# Altium footprint library openmv-ae3.PcbLib: 66 footprints (part 2 of 5)
Each footprint in its own frame and in the unit in brackets; x right, y up, seen from the top. Pads: shape width x height; smd on the part's side, far side on the other; paste and mask are expansions set on the pad; w line width, h text height; cw(c..) or ccw(c..) is an arc to the next point about the centre after c.
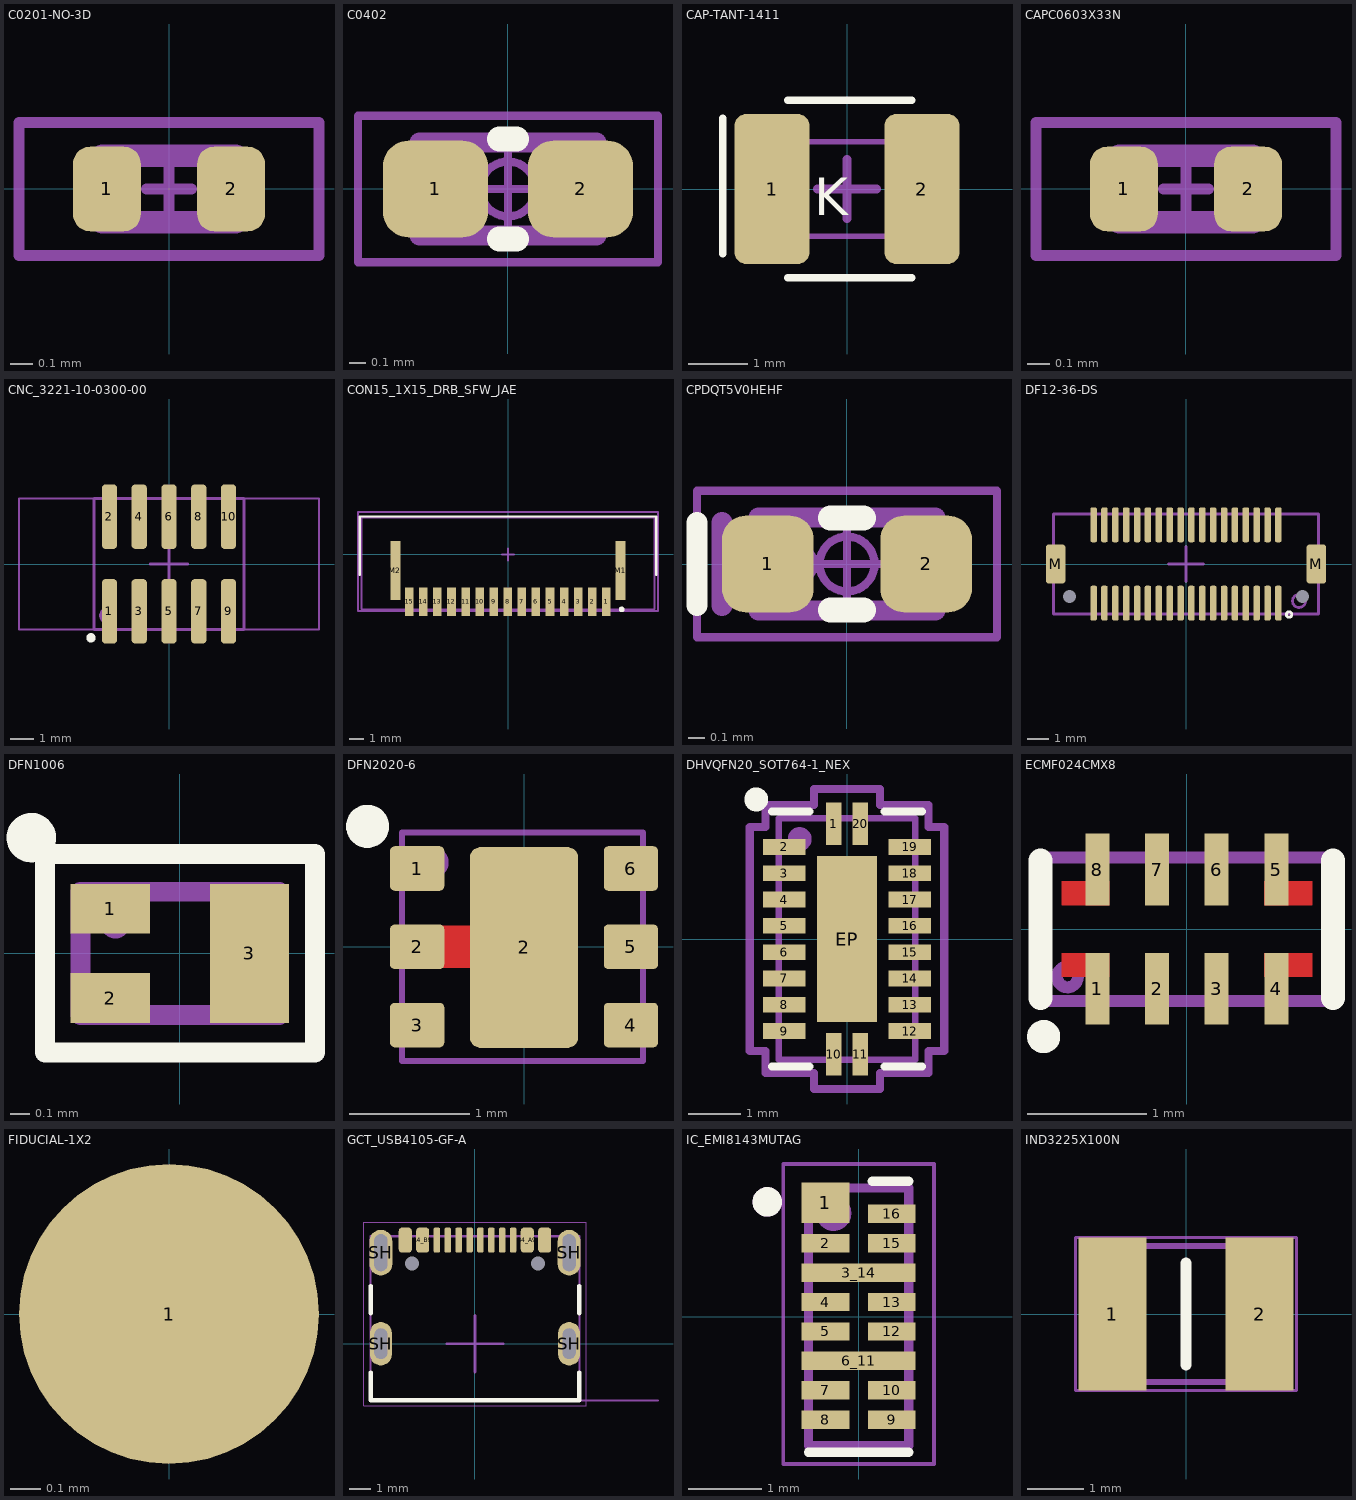
[diagram p1: the footprints below, top view; thin cyan lines are the x and y axes]

## C0201-NO-3D [mil] "0201 IPC-7351"
height 10.24
pads (2):
  rrect50% 12x15 smd mask+1.97: 1(-11,0) 2(11,0)
Top 3D Body:
  lines w3.94: -11.81,-5.91 11.81,-5.91 11.81,5.91 -11.81,5.91 -11.81,-5.91
  text ".designator" at -7.87,-2.95 h15.75
Top Courtyard:
  lines w1.97: -3.94,0 0,0 ; 0,-3.94 0,0 ; 0,3.94 0,0 ; 3.94,0 0,0 ; -26.57,-11.81 26.57,-11.81 26.57,11.81 -26.57,11.81 -26.57,-11.81

## C0402 [mm] "Chip Capacitor, 2-Leads, Body  0402 (in) 1005 (mm), IPC Medium Density"
height 0.5
pads (2):
  rrect52% 0.63x0.58 smd mask+0.05: 1(-0.435,0) 2(0.435,0)
Top Overlay:
  lines w0.15: -0.05,-0.3 0.05,-0.3 ; -0.05,0.3 0.05,0.3
Top 3D Body:
  lines w0.12: -0.53,-0.28 0.53,-0.28 0.53,0.28 -0.53,0.28 -0.53,-0.28
  text ".designator" at -0.432,-0.178 h0.3
Top Courtyard:
  circle w0.05: c0,0 r0.165
  lines w0.05: -0.22,0 0.22,0 ; 0,-0.22 0,0.22 ; -0.9,-0.44 0.9,-0.44 0.9,0.44 -0.9,0.44 -0.9,-0.44
3D body "CAP-0402.stp": height 0.5, standoff 0, extent -0.5,-0.25 0.5,0.25

## CAP-TANT-1411 [mm] "IPC 7351 1206"
height 0.6
pads (2):
  rrect30% 1.27x2.54 smd: 1(-1.27,0) 2(1.27,0)
Top Overlay:
  lines w0.127: -2.1,-1.1 -2.1,1.2 ; -1,-1.5 1.1,-1.5 ; -1,1.5 1.1,1.5
  text "K" at -0.555,-0.444 h0.64
Top 3D Body:
  lines w0.1: -1.6,-0.8 1.575,-0.8 1.575,0.8 -1.6,0.8 -1.6,-0.8
  lines w0.15: -0.5,0 0,0 ; 0,-0.5 0,0 ; 0,0.5 0,0 ; 0.5,0 0,0 ; 0,0 0,0
  lines w0.152: -1.8,-0.6 -1.8,0.6
  text ".designator" at -1.451,-0.624 h0.38
3D body "F93-C_AVX.step": height 2.16, standoff 0, extent -1.702,-1.499 1.702,1.499

## CAPC0603X33N [mil] "CAPC0603X33N"
pads (2):
  rrect50% 12x15 smd mask+1.97: 1(-10.97,-0.04) 2(11.03,-0.04)
Top Solder:
  rectangle: -6.97,-9.04 8.03,8.96
Top 3D Body:
  lines w3.94: -11.78,-5.95 -11.78,5.86 11.84,5.86 11.84,-5.95 -11.78,-5.95
  text ".designator" at -7.85,-2.99 h15.75
Top Courtyard:
  lines w1.97: -3.91,-0.04 0.03,-0.04 ; 0.03,-3.98 0.03,-0.04 ; 0.03,3.9 0.03,-0.04 ; 3.97,-0.04 0.03,-0.04 ; -26.55,-11.85 -26.55,11.77 26.6,11.77 26.6,-11.85 -26.55,-11.85
3D body "C0201_035.step": height 13.78, standoff 0, extent -11.79,-5.93 11.84,5.88

## CNC_3221-10-0300-00 [mm] "CNC_3221-10-0300-00"
pads (10):
  rrect50% 0.65x2.76 smd: 1(-2.54,-2.02) 2(-2.54,2.02) 3(-1.27,-2.02) 4(-1.27,2.02) 5(0,-2.02) 6(0,2.02) 7(1.27,-2.02) 8(1.27,2.02) 9(2.54,-2.02) 10(2.54,2.02)
Top Overlay:
  circle w0.2: c-3.327,-3.15 r0.1
Top 3D Body:
  circle w0.127: c-2.6,-2.2 r0.316
  lines w0.127: -0.8,0 0,0 ; 0,-0.8 0,0 ; 0,0.8 0,0 ; 0.8,0 0,0 ; -3.2,-2.8 3.2,-2.8 3.2,2.8 -3.2,2.8 -3.2,-2.8
  text ".designator" at -2.1,-2.65 h0.64
Top Courtyard:
  lines w0.076: -6.4,-2.8 -6.4,2.8 6.4,2.8 6.4,-2.8 -6.4,-2.8
3D body "FTSH-105-01-L-DV-K.stp": height 6.13, standoff 0.01, extent -3.175,-2.921 3.175,2.921

## CON15_1X15_DRB_SFW_JAE [mil]
pads (17):
  rect 24x79 smd mask+4: 1(275,-132.56) 2(235.63,-132.56) 3(196.26,-132.56) 4(156.89,-132.56) 5(117.52,-132.56) 6(78.15,-132.56) 7(38.78,-132.56) 8(-0.59,-132.56) 9(-39.96,-132.56) 10(-79.33,-132.56) 11(-118.7,-132.56) 12(-158.07,-132.56) 13(-197.44,-132.56) 14(-236.81,-132.56) 15(-276.18,-132.56)
  rect 28x165 smd mask+4: M1(315.04,-45.28) M2(-314.96,-45.28)
Top Overlay:
  circle w10: c317.91,-153.54 r2.95
  lines w6: -414.5,-57.67 -414.5,106.3 414.5,106.3 414.5,-57.67
Top 3D Body:
  lines w5: -16.73,0 16.73,0 ; 0,-16.73 0,16.73 ; -409.5,-153.54 409.5,-153.54 409.5,102.36 -409.5,102.36 -409.5,-153.54
  text ".designator" at -354.33,-100.4 h25
Top Courtyard:
  lines w6: -419.5,-158 419.5,-158 419.5,118.5 -419.5,118.5 -419.5,-158
3D body "ssfw15r_2_4st_lf.stp": height 106.3, standoff -0.02, extent -409.46,-154.39 409.44,101.52

## CPDQT5V0HEHF [mm] "CPDQT5V0HEHF"
pads (2):
  rrect51% 0.55x0.58 smd mask+0.05: 1(-0.475,0) 2(0.475,0)
Top Overlay:
  lines w0.127: -0.9,-0.25 -0.9,0.25
  lines w0.15: -0.1,-0.275 0.1,-0.275 ; -0.1,0.275 0.1,0.275
Top 3D Body:
  circle w0.254: c-0.3,0 r0
  lines w0.12: -0.53,-0.28 -0.53,0.28 0.53,0.28 0.53,-0.28 -0.53,-0.28
  lines w0.127: -0.75,-0.25 -0.75,0.25
  text ".designator" at -0.2,-0.2 h0.3
Top Courtyard:
  circle w0.05: c0,0 r0.165
  lines w0.05: -0.22,0 0.22,0 ; 0,-0.22 0,0.22 ; -0.9,-0.44 -0.9,0.44 0.9,0.44 0.9,-0.44 -0.9,-0.44
3D body "RES-0402.stp": height 0.34, standoff 0, extent -0.5,-0.25 0.5,0.25

## DF12-36-DS [mm] "DF12-36-DS"
pads (40):
  rrect50% 0.3x1.6 smd paste+0 mask+0.05: 1(4.25,-1.8) 2(4.25,1.8) 3(3.75,-1.8) 4(3.75,1.8) 5(3.25,-1.8) 6(3.25,1.8) 7(2.75,-1.8) 8(2.75,1.8) 9(2.25,-1.8) 10(2.25,1.8) 11(1.75,-1.8) 12(1.75,1.8) 13(1.25,-1.8) 14(1.25,1.8) 15(0.75,-1.8) 16(0.75,1.8) 17(0.25,-1.8) 18(0.25,1.8) 19(-0.25,-1.8) 20(-0.25,1.8) 21(-0.75,-1.8) 22(-0.75,1.8) 23(-1.25,-1.8) 24(-1.25,1.8) 25(-1.75,-1.8) 26(-1.75,1.8) 27(-2.25,-1.8) 28(-2.25,1.8) 29(-2.75,-1.8) 30(-2.75,1.8) 31(-3.25,-1.8) 32(-3.25,1.8) 33(-3.75,-1.8) 34(-3.75,1.8) 35(-4.25,-1.8) 36(-4.25,1.8)
  rrect30% 0.9x1.8 smd: M(-6,0) M(6,0)
  round 0 hole 0.6 unplated: MH1(5.35,-1.5) MH2(-5.35,-1.5)
Top Overlay:
  circle w0.127: c4.742,-2.324 r0.127
Top Paste:
  region: -3.638,-1.206 -3.638,-2.507 -3.858,-2.507 -3.858,-1.206
  region: -4.138,2.513 -4.138,1.213 -4.358,1.213 -4.358,2.513
  region: -3.638,2.513 -3.638,1.213 -3.858,1.213 -3.858,2.513
  region: -4.138,-1.206 -4.138,-2.507 -4.358,-2.507 -4.358,-1.206
  region: -2.638,-1.206 -2.638,-2.507 -2.858,-2.507 -2.858,-1.206
  region: -2.138,-1.206 -2.138,-2.507 -2.358,-2.507 -2.358,-1.206
  region: -1.638,-1.206 -1.638,-2.507 -1.858,-2.507 -1.858,-1.206
  region: -1.138,-1.206 -1.138,-2.507 -1.358,-2.507 -1.358,-1.206
  region: -0.638,-1.206 -0.638,-2.507 -0.858,-2.507 -0.858,-1.206
  region: -0.138,-1.206 -0.138,-2.507 -0.358,-2.507 -0.358,-1.206
  region: 0.362,-1.206 0.362,-2.507 0.142,-2.507 0.142,-1.206
  region: 0.862,-1.206 0.862,-2.507 0.642,-2.507 0.642,-1.206
  region: 1.362,-1.206 1.362,-2.507 1.142,-2.507 1.142,-1.206
  region: 1.862,-1.206 1.862,-2.507 1.642,-2.507 1.642,-1.206
  region: 2.362,-1.206 2.362,-2.507 2.142,-2.507 2.142,-1.206
  region: 2.862,-1.206 2.862,-2.507 2.642,-2.507 2.642,-1.206
  region: 3.362,-1.206 3.362,-2.507 3.142,-2.507 3.142,-1.206
  region: 3.862,-1.206 3.862,-2.507 3.642,-2.507 3.642,-1.206
  region: 4.362,-1.206 4.362,-2.507 4.142,-2.507 4.142,-1.206
  region: -3.138,2.513 -3.138,1.213 -3.358,1.213 -3.358,2.513
  region: -2.638,2.513 -2.638,1.213 -2.858,1.213 -2.858,2.513
  region: -2.138,2.513 -2.138,1.213 -2.358,1.213 -2.358,2.513
  region: -1.638,2.513 -1.638,1.213 -1.858,1.213 -1.858,2.513
  region: -1.138,2.513 -1.138,1.213 -1.358,1.213 -1.358,2.513
  region: -0.638,2.513 -0.638,1.213 -0.858,1.213 -0.858,2.513
  region: -0.148,2.513 -0.148,1.213 -0.368,1.213 -0.368,2.513
  region: 0.362,2.513 0.362,1.213 0.142,1.213 0.142,2.513
  region: 0.862,2.513 0.862,1.213 0.642,1.213 0.642,2.513
  region: 1.362,2.513 1.362,1.213 1.142,1.213 1.142,2.513
  region: 1.852,2.513 1.852,1.213 1.632,1.213 1.632,2.513
  region: 2.362,2.513 2.362,1.213 2.142,1.213 2.142,2.513
  region: 2.862,2.513 2.862,1.213 2.642,1.213 2.642,2.513
  region: 3.362,2.513 3.362,1.213 3.142,1.213 3.142,2.513
  region: 3.862,2.513 3.862,1.213 3.642,1.213 3.642,2.513
  region: 4.362,2.513 4.362,1.213 4.142,1.213 4.142,2.513
  region: -3.138,-1.206 -3.138,-2.507 -3.358,-2.507 -3.358,-1.206
Top 3D Body:
  circle w0.127: c5.2,-1.7 r0.3
  lines w0.127: -0.8,0 0,0 ; 0,-0.8 0,0 ; 0,0.8 0,0 ; 0.8,0 0,0 ; -6.1,-2.3 6.1,-2.3 6.1,2.3 -6.1,2.3 -6.1,-2.3
  text ".designator" at -5.5,-2.25 h0.64
3D body "DF12NB-36DS-0.5V.stp": height 2.7, standoff 0, extent -6.05,-2.3 6.05,2.3

## DFN1006 [mm]
height 0.5
pads (3):
  rect 0.4x0.25 smd paste+0 mask+0.05: 1(-0.35,0.225) 2(-0.35,-0.225)
  rect 0.4x0.7 smd paste+0 mask+0.05: 3(0.35,0)
Top Overlay:
  circle w0.125: c-0.749,0.582 r0.062
  lines w0.1: -0.68,-0.5 0.68,-0.5 0.68,0.5 -0.68,0.5 -0.68,-0.5
Top 3D Body:
  circle w0.1: c-0.325,0.15 r0.025
  lines w0.1: -0.5,-0.31 -0.5,0.31 0.5,0.31 0.5,-0.31 -0.5,-0.31
  text ".designator" at -0.406,-0.229 h0.3
3D body: height 0.5, standoff 0, extent -0.5,-0.31 0.5,0.31

## DFN2020-6 [mm]
pads (7):
  rrect20% 0.45x0.37 smd mask+0.05: 1(-0.887,0.65) 2(-0.887,0) 3(-0.887,-0.65) 4(0.888,-0.65) 5(0.887,0) 6(0.888,0.65)
  rrect20% 0.9x1.67 smd mask+0.05: 2(0,-0.006)
Top Layer:
  rectangle: -0.823,-0.175 -0.375,0.175
Top Overlay:
  circle w0.2: c-1.3,1 r0.079
Top Solder:
  rectangle: -0.875,-0.225 -0.35,0.225
Top 3D Body:
  circle w0.2: c-0.762,0.7 r0.035
  lines w0.051: -0.275,0 0,0 ; 0,-0.275 0,0 ; 0,0.275 0,0 ; 0.275,0 0,0 ; -1.012,-0.95 0.988,-0.95 0.988,0.95 -1.012,0.95 -1.012,-0.95
  text ".designator" at -0.95,-0.961 h0.51
3D body: height 0.51, standoff 0, extent -1.012,-0.95 0.988,0.95

## DHVQFN20_SOT764-1_NEX [mm]
pads (21):
  rect 0.3x0.808 smd mask+0.051: 1(-0.25,2.195) 10(-0.25,-2.195) 11(0.25,-2.195) 20(0.25,2.195)
  rect 0.808x0.3 smd mask+0.051: 2(-1.191,1.75) 3(-1.191,1.25) 4(-1.191,0.75) 5(-1.191,0.25) 6(-1.191,-0.25) 7(-1.191,-0.75) 8(-1.191,-1.25) 9(-1.191,-1.75) 12(1.191,-1.75) 13(1.191,-1.25) 14(1.191,-0.75) 15(1.191,-0.25) 16(1.191,0.25) 17(1.191,0.75) 18(1.191,1.25) 19(1.191,1.75)
  rect 1.143x3.15 smd mask+0.051: EP(0,0)
Top Overlay:
  circle w0.254: c-1.726,2.654 r0.1
  lines w0.152: -1.422,-2.426 -0.71,-2.426 ; -1.422,2.426 -0.71,2.426 ; 0.71,-2.426 1.422,-2.426 ; 0.71,2.426 1.422,2.426
Top Paste:
  region: 0.472,1.475 -0.472,1.475 -0.472,0.1 0.472,0.1
  region: 0.472,-0.1 -0.472,-0.1 -0.472,-1.475 0.472,-1.475
Top 3D Body:
  circle w0.254: c-0.9,1.9 r0.1
  lines w0.025: -0.402,-2.299 -0.098,-2.299 -0.402,-2.299 ; -0.402,2.299 -0.098,2.299 -0.402,2.299 ; 0.098,-2.299 0.402,-2.299 0.098,-2.299 ; 0.098,2.299 0.402,2.299 0.098,2.299
  lines w0.076: -0.4,0 0.4,0 ; 0,-0.4 0,0.4
  lines w0.127: -1.295,-2.299 1.295,-2.299 1.295,2.299 -1.295,2.299 -1.295,-2.299 ; -1.295,-1.902 -1.295,-1.598 -1.295,-1.902 ; -1.295,-1.402 -1.295,-1.098 -1.295,-1.402 ; -1.295,-0.902 -1.295,-0.598 -1.295,-0.902 ; -1.295,-0.402 -1.295,-0.098 -1.295,-0.402 ; -1.295,0.098 -1.295,0.402 -1.295,0.098 ; -1.295,0.598 -1.295,0.902 -1.295,0.598 ; -1.295,1.098 -1.295,1.402 -1.295,1.098 ; -1.295,1.598 -1.295,1.902 -1.295,1.598 ; 1.295,-1.902 1.295,-1.598 1.295,-1.902 ; 1.295,-1.402 1.295,-1.098 1.295,-1.402 ; 1.295,-0.902 1.295,-0.598 1.295,-0.902 ; 1.295,-0.402 1.295,-0.098 1.295,-0.402 ; 1.295,0.098 1.295,0.402 1.295,0.098 ; 1.295,0.598 1.295,0.902 1.295,0.598 ; 1.295,1.098 1.295,1.402 1.295,1.098 ; 1.295,1.598 1.295,1.902 1.295,1.598
  text ".designator" at 1.35,-2 h0.64
Top Courtyard:
  lines w0.152: -1.849,-2.131 -1.549,-2.131 -1.549,-2.553 -0.631,-2.553 -0.631,-2.853 0.631,-2.853 0.631,-2.553 1.549,-2.553 1.549,-2.131 1.849,-2.131 1.849,2.131 1.549,2.131 1.549,2.553 0.631,2.553 0.631,2.853 -0.631,2.853 -0.631,2.553 -1.549,2.553 -1.549,2.131 -1.849,2.131 -1.849,-2.131
3D body "DHVQFN20_SOT764-1_NEX.step": height 0.99, standoff 0, extent -1.295,-2.299 1.295,2.299

## ECMF024CMX8 [mm] "ECMF024CMX8"
pads (8):
  rect 0.2x0.6 smd: 1(-0.75,-0.5) 2(-0.25,-0.5) 3(0.25,-0.5) 4(0.75,-0.5) 5(0.75,0.5) 6(0.25,0.5) 7(-0.25,0.5) 8(-0.75,0.5)
Top Layer:
  region: 0.65,0.2 0.65,0.4 1.05,0.4 1.05,0.2
  region: 0.65,-0.2 0.65,-0.4 1.05,-0.4 1.05,-0.2
  region: -0.65,-0.2 -0.65,-0.4 -1.05,-0.4 -1.05,-0.2
  region: -0.65,0.2 -0.65,0.4 -1.05,0.4 -1.05,0.2
Top Overlay:
  circle w0.15: c-1.2,-0.9 r0.064
  lines w0.2: -1.225,-0.575 -1.225,0.575 ; 1.225,-0.575 1.225,0.575
Top 3D Body:
  circle w0.1: c-1,-0.4 r0.087
  lines w0.1: -1.25,-0.6 -1.25,0.6 1.25,0.6 1.25,-0.6 -1.25,-0.6
  text ".designator" at -0.85,-1.373 h0.76
3D body: height 0.5, standoff 0, extent -1.25,-0.6 1.25,0.6

## FIDUCIAL-1X2 [mm] "FIDUCIAL-1X2"
pads (1):
  rrect100% 1x1 smd paste+0: 1(0,0)

## GCT_USB4105-GF-A [mm] "GCT_USB4105-GF-A"
pads (18):
  round 0 hole 0.65 unplated: 0(-2.89,3.68) 0(2.89,3.68)
  rrect50% 0.6x1.15 smd mask+0: A1_B12(-3.2,4.755) A4_B9(-2.4,4.755) B1_A12(3.2,4.755) B4_A9(2.4,4.755)
  rrect50% 0.3x1.15 smd mask+0: A5(-1.25,4.755) A6(-0.25,4.755) A7(0.25,4.755) A8(1.25,4.755) B5(1.75,4.755) B6(0.75,4.755) B7(-0.75,4.755) B8(-1.75,4.755)
  oval 1x2 hole 0.6 slot 1.4 at 90 deg: SH(-4.32,0) SH(4.32,0)
  oval 1.05x2.1 hole 0.6 slot 1.7 at 90 deg: SH(-4.32,4.18) SH(4.32,4.18)
Top Overlay:
  lines w0.2: -4.79,-1.32 -4.79,-2.6 4.79,-2.6 4.79,-1.32 ; -4.79,1.4 -4.79,2.65 ; 4.79,1.4 4.79,2.65
Top 3D Body:
  lines w0.1: 4.8,-2.6 8.4,-2.6 ; -4.79,-2.6 4.79,-2.6 4.79,4.93 -4.79,4.93 -4.79,-2.6
  lines w0.127: -1.3,0 0,0 ; 0,-1.3 0,0 ; 0,1.3 0,0 ; 1.3,0 0,0
  text "PCB EDGE" at 5.4,-2.5 h0.41
  text ".designator" at -2,1.85 h0.64
Top Courtyard:
  lines w0.05: -5.1,-2.85 -5.1,5.58 5.1,5.58 5.1,-2.85 -5.1,-2.85
3D body "step_temp.STEP": height 3.31, standoff -0.85, extent -4.79,-2.6 4.79,5.11

## IC_EMI8143MUTAG [mm]
pads (14):
  rect 0.65x0.55 smd mask+0.051: 1(-0.45,1.55)
  rect 0.65x0.25 smd mask+0.051: 2(-0.45,1) 4(-0.45,0.2) 5(-0.45,-0.2) 7(-0.45,-1) 8(-0.45,-1.4) 9(0.45,-1.4) 10(0.45,-1) 12(0.45,-0.2) 13(0.45,0.2) 15(0.45,1) 16(0.45,1.4)
  rect 1.55x0.25 smd mask+0.051: 3_14(0,0.6) 6_11(0,-0.6)
Top Overlay:
  circle w0.2: c-1.24,1.56 r0.1
  lines w0.127: -0.68,-1.84 0.68,-1.84 ; 0.185,1.84 0.68,1.84
Top 3D Body:
  circle w0.2: c-1.24,1.56 r0.1
  circle w0.203: c-0.339,1.406 r0.139
  lines w0.127: -0.68,-1.75 -0.68,1.75 0.68,1.75 0.68,-1.75 -0.68,-1.75
  text ".designator" at 0.576,-1.524 h0.64
Top Courtyard:
  lines w0.05: -1.025,-2 1.025,-2 1.025,2.075 -1.025,2.075 -1.025,-2
3D body: height 0.51, standoff 0, extent -0.68,-1.75 0.68,1.75

## IND3225X100N [mm]
pads (2):
  rect 1.2x2.7 smd: 1(-1.3,0) 2(1.3,0)
Top Overlay:
  lines w0.2: 0,-0.9 0,0.9
Top 3D Body:
  lines w0.1: -1.6,-1.2 -1.6,1.2 1.6,1.2 1.6,-1.2 -1.6,-1.2
Mechanical 20:
  lines w0.05: -1.95,-1.35 -1.95,1.35 1.95,1.35 1.95,-1.35 -1.95,-1.35
3D body: height 1, standoff 0, extent -1.6,-1.2 1.6,1.2